# Altium schematic symbol library 屏幕.SchLib: 1 symbol
Pins are listed as number, name and electrical type; pins without a type are passive.

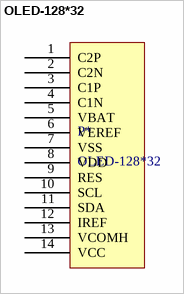
[diagram p0: symbol OLED-128*32]

## OLED-128*32
designator P*
footprint OLED-128*32
pins: 1 C2P, 2 C2N, 3 C1P, 4 C1N, 5 VBAT, 6 VEREF, 7 VSS, 8 VDD, 9 RES, 10 SCL, 11 SDA, 12 IREF, 13 VCOMH, 14 VCC